# Altium footprint library TVS双向二极管.PcbLib: 1 footprints
Each footprint in its own frame and in the unit in brackets; x right, y up, seen from the top. Pads: shape width x height; smd on the part's side, far side on the other; paste and mask are expansions set on the pad; w line width, h text height; cw(c..) or ccw(c..) is an arc to the next point about the centre after c.
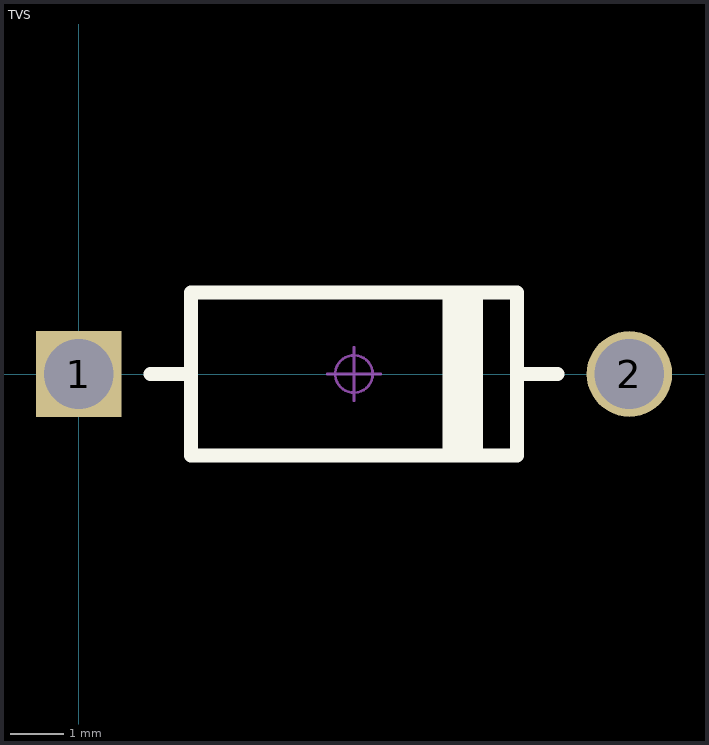
[diagram p0: the footprint, top view; thin cyan lines are the x and y axes]

## TVS [mm] "D0-15 P6KE"
pads (2):
  rect 1.6x1.6 hole 1.3 mask+0.05: 1(0,0)
  round 1.6 hole 1.3 mask+0.05: 2(10.3,0)
Top Overlay:
  lines w0.254: 1.34,0 2.102,0 ; 6.928,-1.524 6.928,1.524 ; 7.182,-1.524 7.182,1.524 ; 7.436,-1.524 7.436,1.524 ; 8.198,0 8.96,0 ; 2.102,-1.524 8.198,-1.524 8.198,1.524 2.102,1.524 2.102,-1.524
Mechanical 15:
  circle w0.05: c5.15,0 r0.35
  lines w0.05: 4.65,0 5.65,0 ; 5.15,-0.5 5.15,0.5